# Altium schematic symbol library DcDc.SchLib: 7 symbols
Pins are listed as number, name and electrical type; pins without a type are passive.

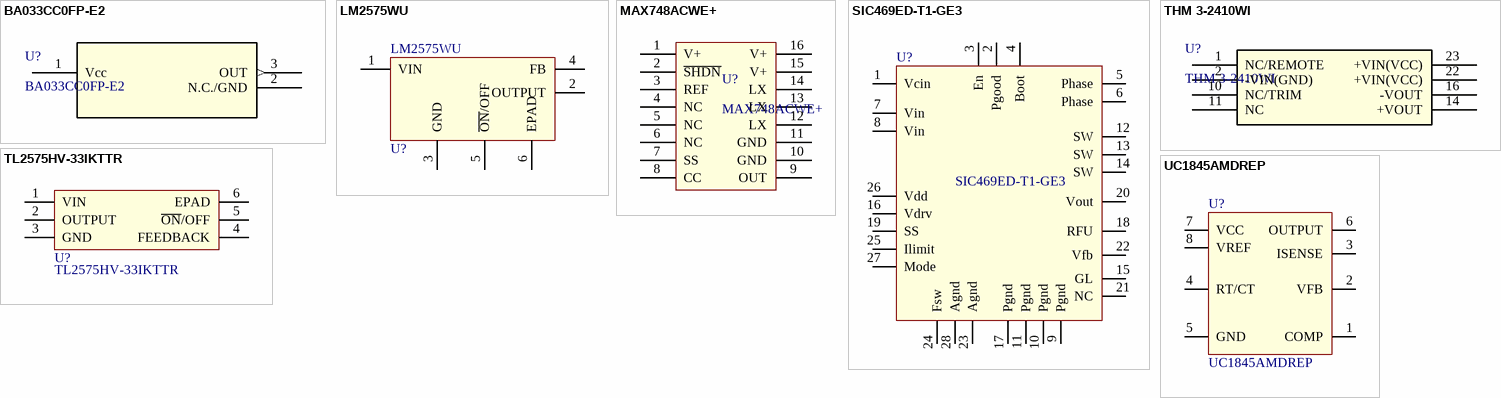
[diagram p0: symbols BA033CC0FP-E2 to UC1845AMDREP]

## BA033CC0FP-E2
designator U?
IC REG LINEAR 3.3V 1A TO252-3; Vendor: ROHM Semiconductor; Built_By: EMA_Molly; SourceLibrary: ROHM_2019-10-21; Manufacturer_Part_Number: BA033CC0FP-E2; Copyright: Copyright (C) 2018 Accelerated Designs. All rights reserved; RefDes: RefDes; Type: DEV
footprint TO252-3_ROM-M(My_BIg)
pins: 1 Vcc (power), 2 N.C./GND, 3 OUT (out)

## LM2575WU
designator U?
1-A  0-40V to 1,23-37V; Manufacturer_Part_Number: TL2575HV-33IKTTR; GENERIC_PART_NUMBER: TL2575HV-33; Vendor: Texas Instruments; PACKAGE_DESIGNATOR: KTT; PIN_COUNT: 5; FAMILY_NAME: STEP-DOWN REGULATOR; INDUSTRY_STD_PKG_TYPE: DDPAK/TO-263; Datasheet_URL: http://www.ti.com/lit/gpn/TL2575HV-33; Manufacturer: Texas Instruments; Copyright: Copyright (C) 2018 Accelerated Designs. All rights reserved; RefDes: RefDes; Type: DEV
footprint KTT5_6P22X6P86
pins: 1 VIN, 2 OUTPUT, 3 GND (power), 4 FB, 5 ~{ON}/OFF, 6 EPAD

## MAX748ACWE+
designator U?
IC REG BUCK 3.3V 500MA 16SOIC; Vendor: Maxim Integrated Products; Built_By: EMA_UL_Team; Manufacturer_Part_Number: MAX748ACWE+; Copyright: Copyright (C) 2018 Accelerated Designs. All rights reserved; RefDes: RefDes; Type: DEV
footprint 21-0042B_16-M(MY_BIG)
pins: 1 V+ (power), 2 ~{SHDN}, 3 REF, 4 NC, 5 NC, 6 NC, 7 SS, 8 CC, 9 OUT, 10 GND (power), 11 GND (power), 12 LX, 13 LX, 14 LX, 15 V+ (power), 16 V+ (power)

## SIC469ED-T1-GE3
designator U?
Dc-Dc Buck Vin 60V 2A; Manufacturer_Part_Number: SIC461ED-T1-GE3; Built_By: EMA_Matt; Vendor: Vishay; SourceLibrary: Add_to_database_2021-01-04; Datasheet: https://www.vishay.com/docs/65124/sic46x.pdf; Copyright: Copyright (C) 2018 Accelerated Designs. All rights reserved; RefDes: RefDes; Type: DEV
footprint QFN_61ED-T1-GE3_VIS
pins: 1 Vcin, 2 Pgood, 3 En, 4 Boot, 5 Phase, 6 Phase, 7 Vin, 8 Vin, 9 Pgnd, 10 Pgnd, 11 Pgnd, 12 SW, 13 SW, 14 SW, 15 GL, 16 Vdrv, 17 Pgnd, 18 RFU, 19 SS, 20 Vout, 21 NC, 22 Vfb, 23 Agnd, 24 Fsw, 25 Ilimit, 26 Vdd, 27 Mode, 28 Agnd

## THM 3-2410WI
designator U?
Dc-Dc isolated 24V 3.3 1A; Built_By: EMA_Justin; Vendor: Traco Power; SourceLibrary: Traco_Power_2020-05-22; Datasheet: https://www.tracopower.com/products/thm3wi.pdf; Copyright: Copyright (C) 2018 Accelerated Designs. All rights reserved; Manufacturer_Part_Number: THM 3-2410WI; RefDes: RefDes; Type: DEV
footprint THM3-SINGLE_TRP
pins: 1 NC/REMOTE, 2 -VIN(GND), 10 NC/TRIM, 11 NC, 14 +VOUT (power), 16 -VOUT (power), 22 +VIN(VCC) (power), 23 +VIN(VCC) (power)

## TL2575HV-33IKTTR
designator U?
1-A Simple Step-Down Switching Voltage Regulators; Vendor: Texas Instruments; PACKAGE_DESIGNATOR: KTT; PIN_COUNT: 5; FAMILY_NAME: STEP-DOWN REGULATOR; INDUSTRY_STD_PKG_TYPE: DDPAK/TO-263; Manufacturer_Part_Number: TL2575HV-33IKTTR; GENERIC_PART_NUMBER: TL2575HV-33; Datasheet_URL: http://www.ti.com/lit/gpn/TL2575HV-33; Manufacturer: Texas Instruments; Copyright: Copyright (C) 2018 Accelerated Designs. All rights reserved; RefDes: RefDes; Type: DEV
footprint KTT5_6P22X6P86
pins: 1 VIN, 2 OUTPUT, 3 GND (power), 4 FEEDBACK, 5 ~{ON}/OFF, 6 EPAD

## UC1845AMDREP
designator U?
No Description Available; Mfr_Name: Texas Instruments; Copyright: Copyright (C) 2021 Ultra Librarian. All rights reserved.; Manufacturer_Part_Number: UC1845AMDREP; RefDes: RefDes; Type: DEV
footprint D8
pins: 1 COMP, 2 VFB, 3 ISENSE, 4 RT/CT, 5 GND, 6 OUTPUT, 7 VCC, 8 VREF